# Altium schematic symbol library LM339ADR.SchLib: 1 symbol
Pins are listed as number, name and electrical type; pins without a type are passive.

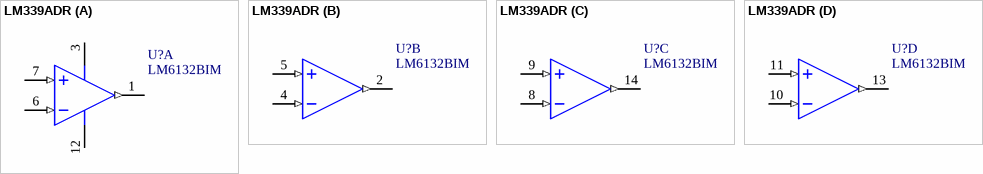
[diagram p0: symbol LM339ADR]

## LM339ADR
designator U?, comment LM6132BIM
part A pins: 1 OUT (out), 3 VDD, 6 IN- (in), 7 IN+ (in), 12 VSS
part B pins: 2 OUT (out), 4 IN- (in), 5 IN+ (in)
part C pins: 8 IN- (in), 9 IN+ (in), 14 OUT (out)
part D pins: 10 IN- (in), 11 IN+ (in), 13 OUT (out)